# Altium footprint library 690368192072.PcbLib: 1 footprints
Each footprint in its own frame and in the unit in brackets; x right, y up, seen from the top. Pads: shape width x height; smd on the part's side, far side on the other; paste and mask are expansions set on the pad; w line width, h text height; cw(c..) or ccw(c..) is an arc to the next point about the centre after c.
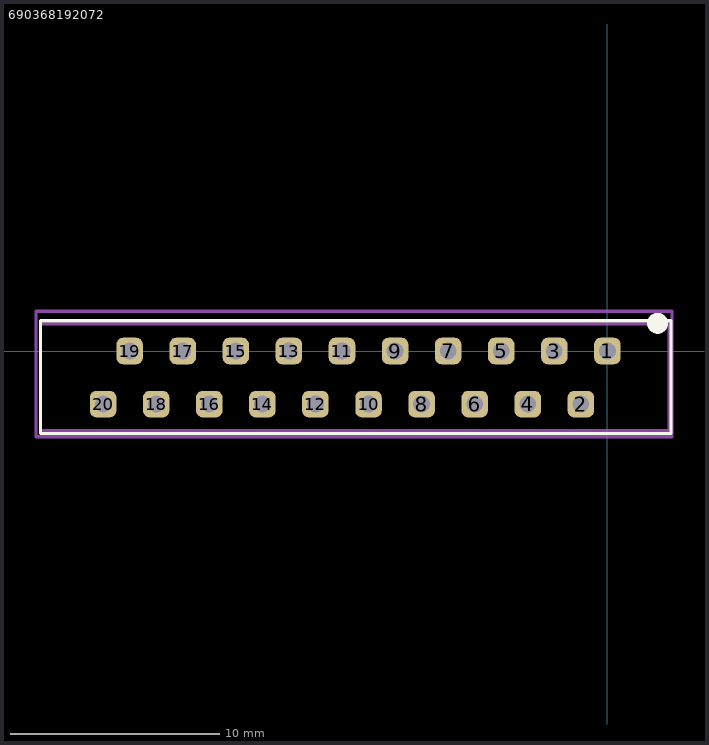
[diagram p0: the footprint, top view; thin cyan lines are the x and y axes]

## 690368192072 [mm] "WR-MM series  20 pin female connector"
pads (20):
  rrect50% 1.27x1.27 hole 0.8 mask+0.07: 1(0,0) 2(-1.27,-2.54) 3(-2.54,0) 4(-3.81,-2.54) 5(-5.08,0) 6(-6.35,-2.54) 7(-7.62,0) 8(-8.89,-2.54) 9(-10.16,0) 10(-11.43,-2.54) 11(-12.7,0) 12(-13.97,-2.54) 13(-15.24,0) 14(-16.51,-2.54) 15(-17.78,0) 16(-19.05,-2.54) 17(-20.32,0) 18(-21.59,-2.54) 19(-22.86,0) 20(-24.13,-2.54)
Top Overlay:
  circle w0.5: c2.4,1.325 r0.25
  lines w0.15: -27.125,-3.95 -27.125,-1.075 -27.125,0.775 -27.125,1.45 3.05,1.45 3.05,0.745 3.05,-3.615 3.05,-3.95 -27.125,-3.95
Top Assembly:
  lines w0.15: -27.125,-3.8 -27.125,1.3 2.95,1.3 2.95,-3.8 -27.125,-3.8
Top Courtyard:
  lines w0.15: -27.35,-4.1 -27.35,1.9 3.1,1.9 3.1,0.85 3.1,-4.1 -27.35,-4.1
3D body "690368192072 (rev1) (1).stp": height 5.8, standoff -3.1, extent -27.05,-3.7 2.95,1.3